# Altium integrated library Xilinx CoolRunner-II FPGA.IntLib: 479 symbols (part 1 of 3)
Pins are listed as number, name and electrical type; pins without a type are passive.

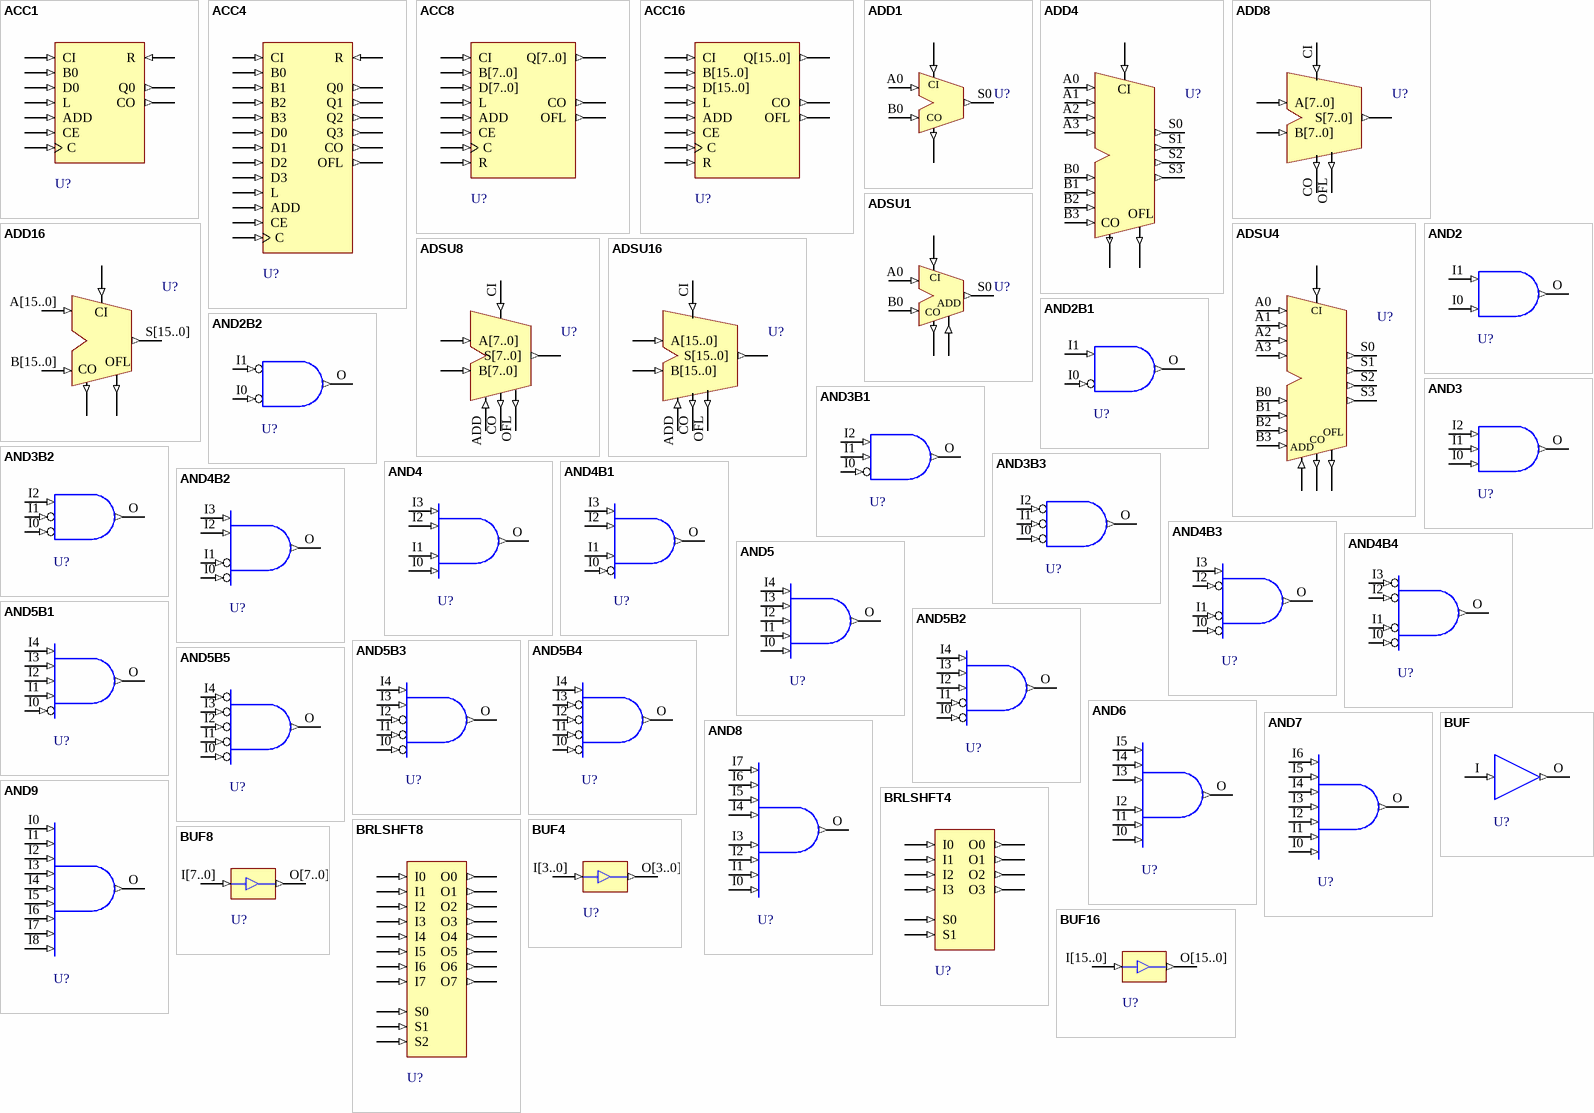
[diagram p0: symbols ACC1 to BUF16]

## ACC1
designator U?
1-Bit Loadable Cascadable Accumulator with Carry-In, Carry-Out and Synchronous Reset; FPGAVendor: Xilinx; Published: 15-Sep-2003; Publisher: Altium Limited; HelpURL: http://toolbox.xilinx.com/docsan/xilinx7/books/docs/lib/lib.pdf
pins: ADD (in), B0 (in), C (in), CE (in), CI (in), CO (out), D0 (in), L (in), Q0 (out), R (in)

## ACC4
designator U?
4-Bit Loadable Cascadable Accumulator with Carry-In, Carry-Out and Synchronous Reset; FPGAVendor: Xilinx; Published: 15-Sep-2003; Publisher: Altium Limited; HelpURL: http://toolbox.xilinx.com/docsan/xilinx7/books/docs/lib/lib.pdf
pins: ADD (in), B0 (in), B1 (in), B2 (in), B3 (in), C (in), CE (in), CI (in), CO (out), D0 (in), D1 (in), D2 (in), D3 (in), L (in), OFL (out), Q0 (out), Q1 (out), Q2 (out), Q3 (out), R (in)

## ACC8
designator U?
8-Bit Loadable Cascadable Accumulator with Carry-In, Carry-Out and Synchronous Reset; FPGAVendor: Xilinx; Published: 15-Sep-2003; Publisher: Altium Limited; HelpURL: http://toolbox.xilinx.com/docsan/xilinx7/books/docs/lib/lib.pdf
pins: ADD (in), B[7..0] (in), C (in), CE (in), CI (in), CO (out), D[7..0] (in), L (in), OFL (out), Q[7..0] (out), R (in)

## ACC16
designator U?
16-Bit Loadable Cascadable Accumulator with Carry-In, Carry-Out and Synchronous Reset; FPGAVendor: Xilinx; Published: 15-Sep-2003; Publisher: Altium Limited; HelpURL: http://toolbox.xilinx.com/docsan/xilinx7/books/docs/lib/lib.pdf
pins: ADD (in), B[15..0] (in), C (in), CE (in), CI (in), CO (out), D[15..0] (in), L (in), OFL (out), Q[15..0] (out), R (in)

## ADD1
designator U?
1-Bit Full Adder with Carry-In and Carry-Out; FPGAVendor: Xilinx; Published: 15-Sep-2003; Publisher: Altium Limited; HelpURL: http://toolbox.xilinx.com/docsan/xilinx7/books/docs/lib/lib.pdf
pins: A0 (in), B0 (in), CI (in), CO (out), S0 (out)

## ADD4
designator U?
4-Bit Cascadable Full Adders with Carry-In, Carry-Out and Overflow; FPGAVendor: Xilinx; Published: 15-Sep-2003; Publisher: Altium Limited; HelpURL: http://toolbox.xilinx.com/docsan/xilinx7/books/docs/lib/lib.pdf
pins: A0 (in), A1 (in), A2 (in), A3 (in), B0 (in), B1 (in), B2 (in), B3 (in), CI (in), CO (out), OFL (out), S0 (out), S1 (out), S2 (out), S3 (out)

## ADD8
designator U?
8-Bit Cascadable Full Adders with Carry-In, Carry-Out and Overflow; FPGAVendor: Xilinx; Published: 15-Sep-2003; Publisher: Altium Limited; HelpURL: http://toolbox.xilinx.com/docsan/xilinx7/books/docs/lib/lib.pdf
pins: A[7..0] (in), B[7..0] (in), CI (in), CO (out), OFL (out), S[7..0] (out)

## ADD16
designator U?
16-Bit Cascadable Full Adders with Carry-In, Carry-Out and Overflow; FPGAVendor: Xilinx; Published: 15-Sep-2003; Publisher: Altium Limited; HelpURL: http://toolbox.xilinx.com/docsan/xilinx7/books/docs/lib/lib.pdf
pins: A[15..0] (in), B[15..0] (in), CI (in), CO (out), OFL (out), S[15..0] (out)

## ADSU1
designator U?
1-Bit Cascadable Adder/Subtracter with Carry-In and Carry-Out; FPGAVendor: Xilinx; Published: 15-Sep-2003; Publisher: Altium Limited; HelpURL: http://toolbox.xilinx.com/docsan/xilinx7/books/docs/lib/lib.pdf
pins: A0 (in), ADD (in), B0 (in), CI (in), CO (out), S0 (out)

## ADSU4
designator U?
4-Bit Cascadable Adders/Subtracters with Carry-In, Carry-Out and Overflow; FPGAVendor: Xilinx; Published: 15-Sep-2003; Publisher: Altium Limited; HelpURL: http://toolbox.xilinx.com/docsan/xilinx7/books/docs/lib/lib.pdf
pins: A0 (in), A1 (in), A2 (in), A3 (in), ADD (in), B0 (in), B1 (in), B2 (in), B3 (in), CI (in), CO (out), OFL (out), S0 (out), S1 (out), S2 (out), S3 (out)

## ADSU8
designator U?
8-Bit Cascadable Adders/Subtracters with Carry-In, Carry-Out and Overflow; FPGAVendor: Xilinx; Published: 15-Sep-2003; Publisher: Altium Limited; HelpURL: http://toolbox.xilinx.com/docsan/xilinx7/books/docs/lib/lib.pdf
pins: A[7..0] (in), ADD (in), B[7..0] (in), CI (in), CO (out), OFL (out), S[7..0] (out)

## ADSU16
designator U?
16-Bit Cascadable Adders/Subtracters with Carry-In, Carry-Out and Overflow; FPGAVendor: Xilinx; Published: 15-Sep-2003; Publisher: Altium Limited; HelpURL: http://toolbox.xilinx.com/docsan/xilinx7/books/docs/lib/lib.pdf
pins: A[15..0] (in), ADD (in), B[15..0] (in), CI (in), CO (out), OFL (out), S[15..0] (out)

## AND2
designator U?
2-Input AND Gate; FPGAVendor: Xilinx; Published: 15-Sep-2003; Publisher: Altium Limited; HelpURL: http://toolbox.xilinx.com/docsan/xilinx7/books/docs/lib/lib.pdf
pins: I0 (in), I1 (in), O (out)

## AND2B1
designator U?
2-Input AND Gate with One Inverted Input; FPGAVendor: Xilinx; Published: 15-Sep-2003; Publisher: Altium Limited; HelpURL: http://toolbox.xilinx.com/docsan/xilinx7/books/docs/lib/lib.pdf
pins: I0 (in), I1 (in), O (out)

## AND2B2
designator U?
2-Input AND Gate with Two Inverted Inputs; FPGAVendor: Xilinx; Published: 15-Sep-2003; Publisher: Altium Limited; HelpURL: http://toolbox.xilinx.com/docsan/xilinx7/books/docs/lib/lib.pdf
pins: I0 (in), I1 (in), O (out)

## AND3
designator U?
3-Input AND Gate; FPGAVendor: Xilinx; Published: 15-Sep-2003; Publisher: Altium Limited; HelpURL: http://toolbox.xilinx.com/docsan/xilinx7/books/docs/lib/lib.pdf
pins: I0 (in), I1 (in), I2 (in), O (out)

## AND3B1
designator U?
3-Input AND Gate with One Inverted Input; FPGAVendor: Xilinx; Published: 15-Sep-2003; Publisher: Altium Limited; HelpURL: http://toolbox.xilinx.com/docsan/xilinx7/books/docs/lib/lib.pdf
pins: I0 (in), I1 (in), I2 (in), O (out)

## AND3B2
designator U?
3-Input AND Gate with Two Inverted Inputs; FPGAVendor: Xilinx; Published: 15-Sep-2003; Publisher: Altium Limited; HelpURL: http://toolbox.xilinx.com/docsan/xilinx7/books/docs/lib/lib.pdf
pins: I0 (in), I1 (in), I2 (in), O (out)

## AND3B3
designator U?
3-Input AND Gate with Three Inverted Inputs; FPGAVendor: Xilinx; Published: 15-Sep-2003; Publisher: Altium Limited; HelpURL: http://toolbox.xilinx.com/docsan/xilinx7/books/docs/lib/lib.pdf
pins: I0 (in), I1 (in), I2 (in), O (out)

## AND4
designator U?
4-Input AND Gate; FPGAVendor: Xilinx; Published: 15-Sep-2003; Publisher: Altium Limited; HelpURL: http://toolbox.xilinx.com/docsan/xilinx7/books/docs/lib/lib.pdf
pins: I0 (in), I1 (in), I2 (in), I3 (in), O (out)

## AND4B1
designator U?
4-Input AND Gate with One Inverted Input; FPGAVendor: Xilinx; Published: 15-Sep-2003; Publisher: Altium Limited; HelpURL: http://toolbox.xilinx.com/docsan/xilinx7/books/docs/lib/lib.pdf
pins: I0 (in), I1 (in), I2 (in), I3 (in), O (out)

## AND4B2
designator U?
4-Input AND Gate with Two Inverted Inputs; FPGAVendor: Xilinx; Published: 15-Sep-2003; Publisher: Altium Limited; HelpURL: http://toolbox.xilinx.com/docsan/xilinx7/books/docs/lib/lib.pdf
pins: I0 (in), I1 (in), I2 (in), I3 (in), O (out)

## AND4B3
designator U?
4-Input AND Gate with Three Inverted Inputs; FPGAVendor: Xilinx; Published: 15-Sep-2003; Publisher: Altium Limited; HelpURL: http://toolbox.xilinx.com/docsan/xilinx7/books/docs/lib/lib.pdf
pins: I0 (in), I1 (in), I2 (in), I3 (in), O (out)

## AND4B4
designator U?
4-Input AND Gate with Four Inverted Inputs; FPGAVendor: Xilinx; Published: 15-Sep-2003; Publisher: Altium Limited; HelpURL: http://toolbox.xilinx.com/docsan/xilinx7/books/docs/lib/lib.pdf
pins: I0 (in), I1 (in), I2 (in), I3 (in), O (out)

## AND5
designator U?
5-Input AND Gate; FPGAVendor: Xilinx; Published: 15-Sep-2003; Publisher: Altium Limited; HelpURL: http://toolbox.xilinx.com/docsan/xilinx7/books/docs/lib/lib.pdf
pins: I0 (in), I1 (in), I2 (in), I3 (in), I4 (in), O (out)

## AND5B1
designator U?
5-Input AND Gate with One Inverted Input; FPGAVendor: Xilinx; Published: 15-Sep-2003; Publisher: Altium Limited; HelpURL: http://toolbox.xilinx.com/docsan/xilinx7/books/docs/lib/lib.pdf
pins: I0 (in), I1 (in), I2 (in), I3 (in), I4 (in), O (out)

## AND5B2
designator U?
5-Input AND Gate with Two Inverted Inputs; FPGAVendor: Xilinx; Published: 15-Sep-2003; Publisher: Altium Limited; HelpURL: http://toolbox.xilinx.com/docsan/xilinx7/books/docs/lib/lib.pdf
pins: I0 (in), I1 (in), I2 (in), I3 (in), I4 (in), O (out)

## AND5B3
designator U?
5-Input AND Gate with Three Inverted Inputs; FPGAVendor: Xilinx; Published: 15-Sep-2003; Publisher: Altium Limited; HelpURL: http://toolbox.xilinx.com/docsan/xilinx7/books/docs/lib/lib.pdf
pins: I0 (in), I1 (in), I2 (in), I3 (in), I4 (in), O (out)

## AND5B4
designator U?
5-Input AND Gate with Four Inverted Inputs; FPGAVendor: Xilinx; Published: 15-Sep-2003; Publisher: Altium Limited; HelpURL: http://toolbox.xilinx.com/docsan/xilinx7/books/docs/lib/lib.pdf
pins: I0 (in), I1 (in), I2 (in), I3 (in), I4 (in), O (out)

## AND5B5
designator U?
5-Input AND Gate with Five Inverted Inputs; FPGAVendor: Xilinx; Published: 15-Sep-2003; Publisher: Altium Limited; HelpURL: http://toolbox.xilinx.com/docsan/xilinx7/books/docs/lib/lib.pdf
pins: I0 (in), I1 (in), I2 (in), I3 (in), I4 (in), O (out)

## AND6
designator U?
6-Input AND Gate; FPGAVendor: Xilinx; Published: 15-Sep-2003; Publisher: Altium Limited; HelpURL: http://toolbox.xilinx.com/docsan/xilinx7/books/docs/lib/lib.pdf
pins: I0 (in), I1 (in), I2 (in), I3 (in), I4 (in), I5 (in), O (out)

## AND7
designator U?
7-Input AND Gate; FPGAVendor: Xilinx; Published: 15-Sep-2003; Publisher: Altium Limited; HelpURL: http://toolbox.xilinx.com/docsan/xilinx7/books/docs/lib/lib.pdf
pins: I0 (in), I1 (in), I2 (in), I3 (in), I4 (in), I5 (in), I6 (in), O (out)

## AND8
designator U?
8-Input AND Gate; FPGAVendor: Xilinx; Published: 15-Sep-2003; Publisher: Altium Limited; HelpURL: http://toolbox.xilinx.com/docsan/xilinx7/books/docs/lib/lib.pdf
pins: I0 (in), I1 (in), I2 (in), I3 (in), I4 (in), I5 (in), I6 (in), I7 (in), O (out)

## AND9
designator U?
9-Input AND Gate; FPGAVendor: Xilinx; Published: 15-Sep-2003; Publisher: Altium Limited; HelpURL: http://toolbox.xilinx.com/docsan/xilinx7/books/docs/lib/lib.pdf
pins: I0 (in), I1 (in), I2 (in), I3 (in), I4 (in), I5 (in), I6 (in), I7 (in), I8 (in), O (out)

## BRLSHFT4
designator U?
4-Bit Barrel Shifter; FPGAVendor: Xilinx; Published: 15-Sep-2003; Publisher: Altium Limited; HelpURL: http://toolbox.xilinx.com/docsan/xilinx7/books/docs/lib/lib.pdf
pins: I0 (in), I1 (in), I2 (in), I3 (in), O0 (out), O1 (out), O2 (out), O3 (out), S0 (in), S1 (in)

## BRLSHFT8
designator U?
8-Bit Barrel Shifter; FPGAVendor: Xilinx; Published: 15-Sep-2003; Publisher: Altium Limited; HelpURL: http://toolbox.xilinx.com/docsan/xilinx7/books/docs/lib/lib.pdf
pins: I0 (in), I1 (in), I2 (in), I3 (in), I4 (in), I5 (in), I6 (in), I7 (in), O0 (out), O1 (out), O2 (out), O3 (out), O4 (out), O5 (out), O6 (out), O7 (out), S0 (in), S1 (in), S2 (in)

## BUF
designator U?
Global Clock Buffer; FPGAVendor: Xilinx; Published: 15-Sep-2003; Publisher: Altium Limited; HelpURL: http://toolbox.xilinx.com/docsan/xilinx7/books/docs/lib/lib.pdf
pins: I (in), O (out)

## BUF4
designator U?
General-Purpose Buffer; FPGAVendor: Xilinx; Published: 15-Sep-2003; Publisher: Altium Limited; HelpURL: http://toolbox.xilinx.com/docsan/xilinx7/books/docs/lib/lib.pdf
pins: I[3..0] (in), O[3..0] O0 (out)

## BUF8
designator U?
General-Purpose Buffer; FPGAVendor: Xilinx; Published: 15-Sep-2003; Publisher: Altium Limited; HelpURL: http://toolbox.xilinx.com/docsan/xilinx7/books/docs/lib/lib.pdf
pins: I[7..0] (in), O[7..0] (out)

## BUF16
designator U?
General-Purpose Buffer; FPGAVendor: Xilinx; Published: 15-Sep-2003; Publisher: Altium Limited; HelpURL: http://toolbox.xilinx.com/docsan/xilinx7/books/docs/lib/lib.pdf
pins: I[15..0] (in), O[15..0] (out)

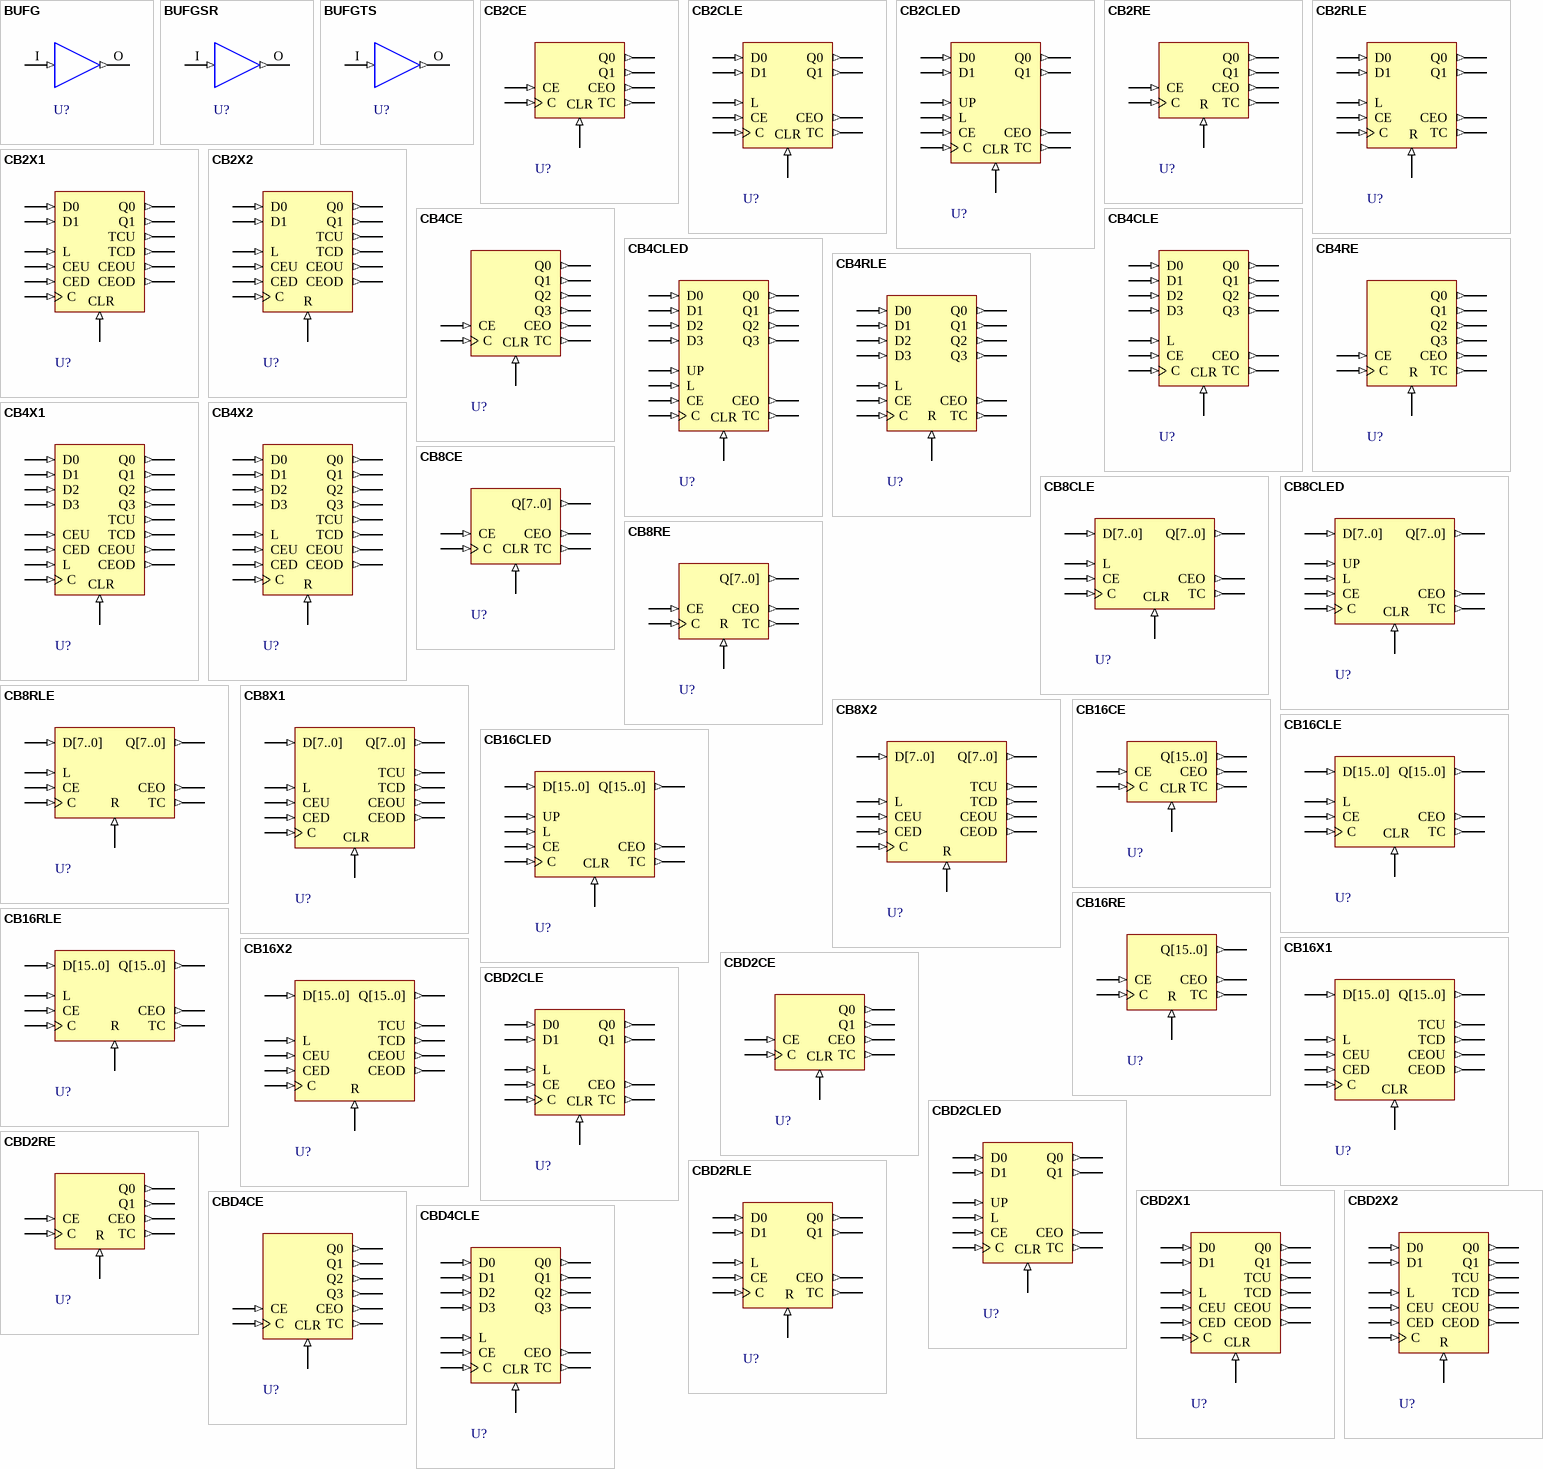
[diagram p1: symbols BUFG to CBD4CLE]

## BUFG
designator U?
Global Clock Buffer; FPGAVendor: Xilinx; Published: 15-Sep-2003; Publisher: Altium Limited; HelpURL: http://toolbox.xilinx.com/docsan/xilinx7/books/docs/lib/lib.pdf
pins: I (in), O (out)

## BUFGSR
designator U?
Global Set/Reset Input Buffer; FPGAVendor: Xilinx; Published: 15-Sep-2003; Publisher: Altium Limited; HelpURL: http://toolbox.xilinx.com/docsan/xilinx7/books/docs/lib/lib.pdf
pins: I (in), O (out)

## BUFGTS
designator U?
Global Three-State Input Buffer; FPGAVendor: Xilinx; Published: 15-Sep-2003; Publisher: Altium Limited; HelpURL: http://toolbox.xilinx.com/docsan/xilinx7/books/docs/lib/lib.pdf
pins: I (in), O (out)

## CB2CE
designator U?
2-Bit Cascadable Binary Counter with Clock Enable and Asynchronous Clear; FPGAVendor: Xilinx; Published: 15-Sep-2003; Publisher: Altium Limited; HelpURL: http://toolbox.xilinx.com/docsan/xilinx7/books/docs/lib/lib.pdf
pins: C (in), CE (in), CEO (out), CLR (in), Q0 (out), Q1 (out), TC (out)

## CB2CLE
designator U?
2-Bit Loadable Cascadable Binary Counter with Clock Enable and Asynchronous Clear; FPGAVendor: Xilinx; Published: 15-Sep-2003; Publisher: Altium Limited; HelpURL: http://toolbox.xilinx.com/docsan/xilinx7/books/docs/lib/lib.pdf
pins: C (in), CE (in), CEO (out), CLR (in), D0 (in), D1 (in), L (in), Q0 (out), Q1 (out), TC (out)

## CB2CLED
designator U?
2-Bit Loadable Cascadable Bidirectional Binary Counter with Clock Enable and Asynchronous Clear; FPGAVendor: Xilinx; Published: 15-Sep-2003; Publisher: Altium Limited; HelpURL: http://toolbox.xilinx.com/docsan/xilinx7/books/docs/lib/lib.pdf
pins: C (in), CE (in), CEO (out), CLR (in), D0 (in), D1 (in), L (in), Q0 (out), Q1 (out), TC (out), UP (in)

## CB2RE
designator U?
2-Bit Cascadable Binary Counter with Clock Enable and Synchronous Reset; FPGAVendor: Xilinx; Published: 15-Sep-2003; Publisher: Altium Limited; HelpURL: http://toolbox.xilinx.com/docsan/xilinx7/books/docs/lib/lib.pdf
pins: C (in), CE (in), CEO (out), Q0 (out), Q1 (out), R (in), TC (out)

## CB2RLE
designator U?
2-Bit Loadable Cascadable Binary Counter with Clock Enable and Synchronous Reset; FPGAVendor: Xilinx; Published: 15-Sep-2003; Publisher: Altium Limited; HelpURL: http://toolbox.xilinx.com/docsan/xilinx7/books/docs/lib/lib.pdf
pins: C (in), CE (in), CEO (out), D0 (in), D1 (in), L (in), Q0 (out), Q1 (out), R (in), TC (out)

## CB2X1
designator U?
2-Bit Loadable Cascadable Bidirectional Binary Counter with Clock Enable and Asynchronous Clear; FPGAVendor: Xilinx; Published: 15-Sep-2003; Publisher: Altium Limited; HelpURL: http://toolbox.xilinx.com/docsan/xilinx7/books/docs/lib/lib.pdf
pins: C (in), CED (in), CEOD (out), CEOU (out), CEU (in), CLR (in), D0 (in), D1 (in), L (in), Q0 (out), Q1 (out), TCD (out), TCU (out)

## CB2X2
designator U?
2-Bit Loadable Cascadable Bidirectional Binary Counter with Clock Enable and Synchronous Reset; FPGAVendor: Xilinx; Published: 15-Sep-2003; Publisher: Altium Limited; HelpURL: http://toolbox.xilinx.com/docsan/xilinx7/books/docs/lib/lib.pdf
pins: C (in), CED (in), CEOD (out), CEOU (out), CEU (in), D0 (in), D1 (in), L (in), Q0 (out), Q1 (out), R (in), TCD (out), TCU (out)

## CB4CE
designator U?
4-Bit Cascadable Binary Counter with Clock Enable and Asynchronous Clear; FPGAVendor: Xilinx; Published: 15-Sep-2003; Publisher: Altium Limited; HelpURL: http://toolbox.xilinx.com/docsan/xilinx7/books/docs/lib/lib.pdf
pins: C (in), CE (in), CEO (out), CLR (in), Q0 (out), Q1 (out), Q2 (out), Q3 (out), TC (out)

## CB4CLE
designator U?
4-Bit Loadable Cascadable Binary Counter with Clock Enable and Asynchronous Clear; FPGAVendor: Xilinx; Published: 15-Sep-2003; Publisher: Altium Limited; HelpURL: http://toolbox.xilinx.com/docsan/xilinx7/books/docs/lib/lib.pdf
pins: C (in), CE (in), CEO (out), CLR (in), D0 (in), D1 (in), D2 (in), D3 (in), L (in), Q0 (out), Q1 (out), Q2 (out), Q3 (out), TC (out)

## CB4CLED
designator U?
4-Bit Loadable Cascadable Bidirectional Binary Counter with Clock Enable and Asynchronous Clear; FPGAVendor: Xilinx; Published: 15-Sep-2003; Publisher: Altium Limited; HelpURL: http://toolbox.xilinx.com/docsan/xilinx7/books/docs/lib/lib.pdf
pins: C (in), CE (in), CEO (out), CLR (in), D0 (in), D1 (in), D2 (in), D3 (in), L (in), Q0 (out), Q1 (out), Q2 (out), Q3 (out), TC (out), UP (in)

## CB4RE
designator U?
4-Bit Cascadable Binary Counter with Clock Enable and Synchronous Reset; FPGAVendor: Xilinx; Published: 15-Sep-2003; Publisher: Altium Limited; HelpURL: http://toolbox.xilinx.com/docsan/xilinx7/books/docs/lib/lib.pdf
pins: C (in), CE (in), CEO (out), Q0 (out), Q1 (out), Q2 (out), Q3 (out), R (in), TC (out)

## CB4RLE
designator U?
4-Bit Loadable Cascadable Binary Counter with Clock Enable and Synchronous Reset; FPGAVendor: Xilinx; Published: 15-Sep-2003; Publisher: Altium Limited; HelpURL: http://toolbox.xilinx.com/docsan/xilinx7/books/docs/lib/lib.pdf
pins: C (in), CE (in), CEO (out), D0 (in), D1 (in), D2 (in), D3 (in), L (in), Q0 (out), Q1 (out), Q2 (out), Q3 (out), R (in), TC (out)

## CB4X1
designator U?
4-Bit Loadable Cascadable Bidirectional Binary Counter with Clock Enable and Asynchronous Clear; FPGAVendor: Xilinx; Published: 15-Sep-2003; Publisher: Altium Limited; HelpURL: http://toolbox.xilinx.com/docsan/xilinx7/books/docs/lib/lib.pdf
pins: C (in), CED (in), CEOD (out), CEOU (out), CEU (in), CLR (in), D0 (in), D1 (in), D2 (in), D3 (in), L (in), Q0 (out), Q1 (out), Q2 (out), Q3 (out), TCD (out), TCU (out)

## CB4X2
designator U?
4-Bit Loadable Cascadable Bidirectional Binary Counter with Clock Enable and Synchronous Reset; FPGAVendor: Xilinx; Published: 15-Sep-2003; Publisher: Altium Limited; HelpURL: http://toolbox.xilinx.com/docsan/xilinx7/books/docs/lib/lib.pdf
pins: C (in), CED (in), CEOD (out), CEOU (out), CEU (in), D0 (in), D1 (in), D2 (in), D3 (in), L (in), Q0 (out), Q1 (out), Q2 (out), Q3 (out), R (in), TCD (out), TCU (out)

## CB8CE
designator U?
8-Bit Cascadable Binary Counter with Clock Enable and Asynchronous Clear; FPGAVendor: Xilinx; Published: 15-Sep-2003; Publisher: Altium Limited; HelpURL: http://toolbox.xilinx.com/docsan/xilinx7/books/docs/lib/lib.pdf
pins: C (in), CE (in), CEO (out), CLR (in), Q[7..0] (out), TC (out)

## CB8CLE
designator U?
8-Bit Loadable Cascadable Binary Counter with Clock Enable and Asynchronous Clear; FPGAVendor: Xilinx; Published: 15-Sep-2003; Publisher: Altium Limited; HelpURL: http://toolbox.xilinx.com/docsan/xilinx7/books/docs/lib/lib.pdf
pins: C (in), CE (in), CEO (out), CLR (in), D[7..0] (in), L (in), Q[7..0] (out), TC (out)

## CB8CLED
designator U?
8-Bit Loadable Cascadable Bidirectional Binary Counter with Clock Enable and Asynchronous Clear; FPGAVendor: Xilinx; Published: 15-Sep-2003; Publisher: Altium Limited; HelpURL: http://toolbox.xilinx.com/docsan/xilinx7/books/docs/lib/lib.pdf
pins: C (in), CE (in), CEO (out), CLR (in), D[7..0] (in), L (in), Q[7..0] (out), TC (out), UP (in)

## CB8RE
designator U?
8-Bit Cascadable Binary Counter with Clock Enable and Synchronous Reset; FPGAVendor: Xilinx; Published: 15-Sep-2003; Publisher: Altium Limited; HelpURL: http://toolbox.xilinx.com/docsan/xilinx7/books/docs/lib/lib.pdf
pins: C (in), CE (in), CEO (out), Q[7..0] (out), R (in), TC (out)

## CB8RLE
designator U?
8-Bit Loadable Cascadable Binary Counter with Clock Enable and Synchronous Reset; FPGAVendor: Xilinx; Published: 15-Sep-2003; Publisher: Altium Limited; HelpURL: http://toolbox.xilinx.com/docsan/xilinx7/books/docs/lib/lib.pdf
pins: C (in), CE (in), CEO (out), D[7..0] (in), L (in), Q[7..0] (out), R (in), TC (out)

## CB8X1
designator U?
8-Bit Loadable Cascadable Bidirectional Binary Counter with Clock Enable and Asynchronous Clear; FPGAVendor: Xilinx; Published: 15-Sep-2003; Publisher: Altium Limited; HelpURL: http://toolbox.xilinx.com/docsan/xilinx7/books/docs/lib/lib.pdf
pins: C (in), CED (in), CEOD (out), CEOU (out), CEU (in), CLR (in), D[7..0] (in), L (in), Q[7..0] (out), TCD (out), TCU (out)

## CB8X2
designator U?
8-Bit Loadable Cascadable Bidirectional Binary Counter with Clock Enable and Synchronous Reset; FPGAVendor: Xilinx; Published: 15-Sep-2003; Publisher: Altium Limited; HelpURL: http://toolbox.xilinx.com/docsan/xilinx7/books/docs/lib/lib.pdf
pins: C (in), CED (in), CEOD (out), CEOU (out), CEU (in), D[7..0] (in), L (in), Q[7..0] (out), R (in), TCD (out), TCU (out)

## CB16CE
designator U?
16-Bit Cascadable Binary Counter with Clock Enable and Asynchronous Clear; FPGAVendor: Xilinx; Published: 15-Sep-2003; Publisher: Altium Limited; HelpURL: http://toolbox.xilinx.com/docsan/xilinx7/books/docs/lib/lib.pdf
pins: C (in), CE (in), CEO (out), CLR (in), Q[15..0] (out), TC (out)

## CB16CLE
designator U?
16-Bit Loadable Cascadable Binary Counters with Clock Enable and Asynchronous Clear; FPGAVendor: Xilinx; Published: 15-Sep-2003; Publisher: Altium Limited; HelpURL: http://toolbox.xilinx.com/docsan/xilinx7/books/docs/lib/lib.pdf
pins: C (in), CE (in), CEO (out), CLR (in), D[15..0] (in), L (in), Q[15..0] (out), TC (out)

## CB16CLED
designator U?
16-Bit Loadable Cascadable Bidirectional Binary Counter with Clock Enable and Asynchronous Clear; FPGAVendor: Xilinx; Published: 15-Sep-2003; Publisher: Altium Limited; HelpURL: http://toolbox.xilinx.com/docsan/xilinx7/books/docs/lib/lib.pdf
pins: C (in), CE (in), CEO (out), CLR (in), D[15..0] (in), L (in), Q[15..0] (out), TC (out), UP (in)

## CB16RE
designator U?
16-Bit Cascadable Binary Counter with Clock Enable and Synchronous Reset; FPGAVendor: Xilinx; Published: 15-Sep-2003; Publisher: Altium Limited; HelpURL: http://toolbox.xilinx.com/docsan/xilinx7/books/docs/lib/lib.pdf
pins: C (in), CE (in), CEO (out), Q[15..0] (out), R (in), TC (out)

## CB16RLE
designator U?
16-Bit Loadable Cascadable Binary Counter with Clock Enable and Synchronous Reset; FPGAVendor: Xilinx; Published: 15-Sep-2003; Publisher: Altium Limited; HelpURL: http://toolbox.xilinx.com/docsan/xilinx7/books/docs/lib/lib.pdf
pins: C (in), CE (in), CEO (out), D[15..0] (in), L (in), Q[15..0] (out), R (in), TC (out)

## CB16X1
designator U?
16-Bit Loadable Cascadable Bidirectional Binary Counter with Clock Enable and Asynchronous Clear; FPGAVendor: Xilinx; Published: 15-Sep-2003; Publisher: Altium Limited; HelpURL: http://toolbox.xilinx.com/docsan/xilinx7/books/docs/lib/lib.pdf
pins: C (in), CED (in), CEOD (out), CEOU (out), CEU (in), CLR (in), D[15..0] (in), L (in), Q[15..0] (out), TCD (out), TCU (out)

## CB16X2
designator U?
16-Bit Loadable Cascadable Bidirectional Binary Counter with Clock Enable and Synchronous Reset; FPGAVendor: Xilinx; Published: 15-Sep-2003; Publisher: Altium Limited; HelpURL: http://toolbox.xilinx.com/docsan/xilinx7/books/docs/lib/lib.pdf
pins: C (in), CED (in), CEOD (out), CEOU (out), CEU (in), D[15..0] (in), L (in), Q[15..0] (out), R (in), TCD (out), TCU (out)

## CBD2CE
designator U?
2-Bit Cascadable Dual Edge Triggered Binary Counters with Clock Enable and Asynchronous Clear; FPGAVendor: Xilinx; Published: 15-Sep-2003; Publisher: Altium Limited; HelpURL: http://toolbox.xilinx.com/docsan/xilinx7/books/docs/lib/lib.pdf
pins: C (in), CE (in), CEO (out), CLR (in), Q0 (out), Q1 (out), TC (out)

## CBD2CLE
designator U?
2-Bit Loadable Cascadable Dual Edge Triggered Binary Counters with Clock Enable and Asynchronous Clear; FPGAVendor: Xilinx; Published: 15-Sep-2003; Publisher: Altium Limited; HelpURL: http://toolbox.xilinx.com/docsan/xilinx7/books/docs/lib/lib.pdf
pins: C (in), CE (in), CEO (out), CLR (in), D0 (in), D1 (in), L (in), Q0 (out), Q1 (out), TC (out)

## CBD2CLED
designator U?
2-Bit Loadable Cascadable Bidirectional Dual Edge Triggered Binary Counters with Clock Enable and Asynchronous Clear; FPGAVendor: Xilinx; Published: 15-Sep-2003; Publisher: Altium Limited; HelpURL: http://toolbox.xilinx.com/docsan/xilinx7/books/docs/lib/lib.pdf
pins: C (in), CE (in), CEO (out), CLR (in), D0 (in), D1 (in), L (in), Q0 (out), Q1 (out), TC (out), UP (in)

## CBD2RE
designator U?
2-Bit Cascadable Dual Edge Triggered Binary Counters with Clock Enable and Synchronous Reset; FPGAVendor: Xilinx; Published: 15-Sep-2003; Publisher: Altium Limited; HelpURL: http://toolbox.xilinx.com/docsan/xilinx7/books/docs/lib/lib.pdf
pins: C (in), CE (in), CEO (out), Q0 (out), Q1 (out), R (in), TC (out)

## CBD2RLE
designator U?
2-Bit Loadable Cascadable Dual Edge Triggered Binary Counters with Clock Enable and Synchronous Reset; FPGAVendor: Xilinx; Published: 15-Sep-2003; Publisher: Altium Limited; HelpURL: http://toolbox.xilinx.com/docsan/xilinx7/books/docs/lib/lib.pdf
pins: C (in), CE (in), CEO (out), D0 (in), D1 (in), L (in), Q0 (out), Q1 (out), R (in), TC (out)

## CBD2X1
designator U?
2-Bit Loadable Cascadable Bidirectional Dual Edge Triggered Binary Counters with Clock Enable and Asynchronous Clear; FPGAVendor: Xilinx; Published: 15-Sep-2003; Publisher: Altium Limited; HelpURL: http://toolbox.xilinx.com/docsan/xilinx7/books/docs/lib/lib.pdf
pins: C (in), CED (in), CEOD (out), CEOU (out), CEU (in), CLR (in), D0 (in), D1 (in), L (in), Q0 (out), Q1 (out), TCD (out), TCU (out)

## CBD2X2
designator U?
2-Bit Loadable Cascadable Bidirectional Dual Edge Triggered Binary Counters with Clock Enable and Synchronous Reset; FPGAVendor: Xilinx; Published: 15-Sep-2003; Publisher: Altium Limited; HelpURL: http://toolbox.xilinx.com/docsan/xilinx7/books/docs/lib/lib.pdf
pins: C (in), CED (in), CEOD (out), CEOU (out), CEU (in), D0 (in), D1 (in), L (in), Q0 (out), Q1 (out), R (in), TCD (out), TCU (out)

## CBD4CE
designator U?
4-Bit Cascadable Dual Edge Triggered Binary Counters with Clock Enable and Asynchronous Clear; FPGAVendor: Xilinx; Published: 15-Sep-2003; Publisher: Altium Limited; HelpURL: http://toolbox.xilinx.com/docsan/xilinx7/books/docs/lib/lib.pdf
pins: C (in), CE (in), CEO (out), CLR (in), Q0 (out), Q1 (out), Q2 (out), Q3 (out), TC (out)

## CBD4CLE
designator U?
4-Bit Loadable Cascadable Dual Edge Triggered Binary Counters with Clock Enable and Asynchronous Clear; FPGAVendor: Xilinx; Published: 15-Sep-2003; Publisher: Altium Limited; HelpURL: http://toolbox.xilinx.com/docsan/xilinx7/books/docs/lib/lib.pdf
pins: C (in), CE (in), CEO (out), CLR (in), D0 (in), D1 (in), D2 (in), D3 (in), L (in), Q0 (out), Q1 (out), Q2 (out), Q3 (out), TC (out)

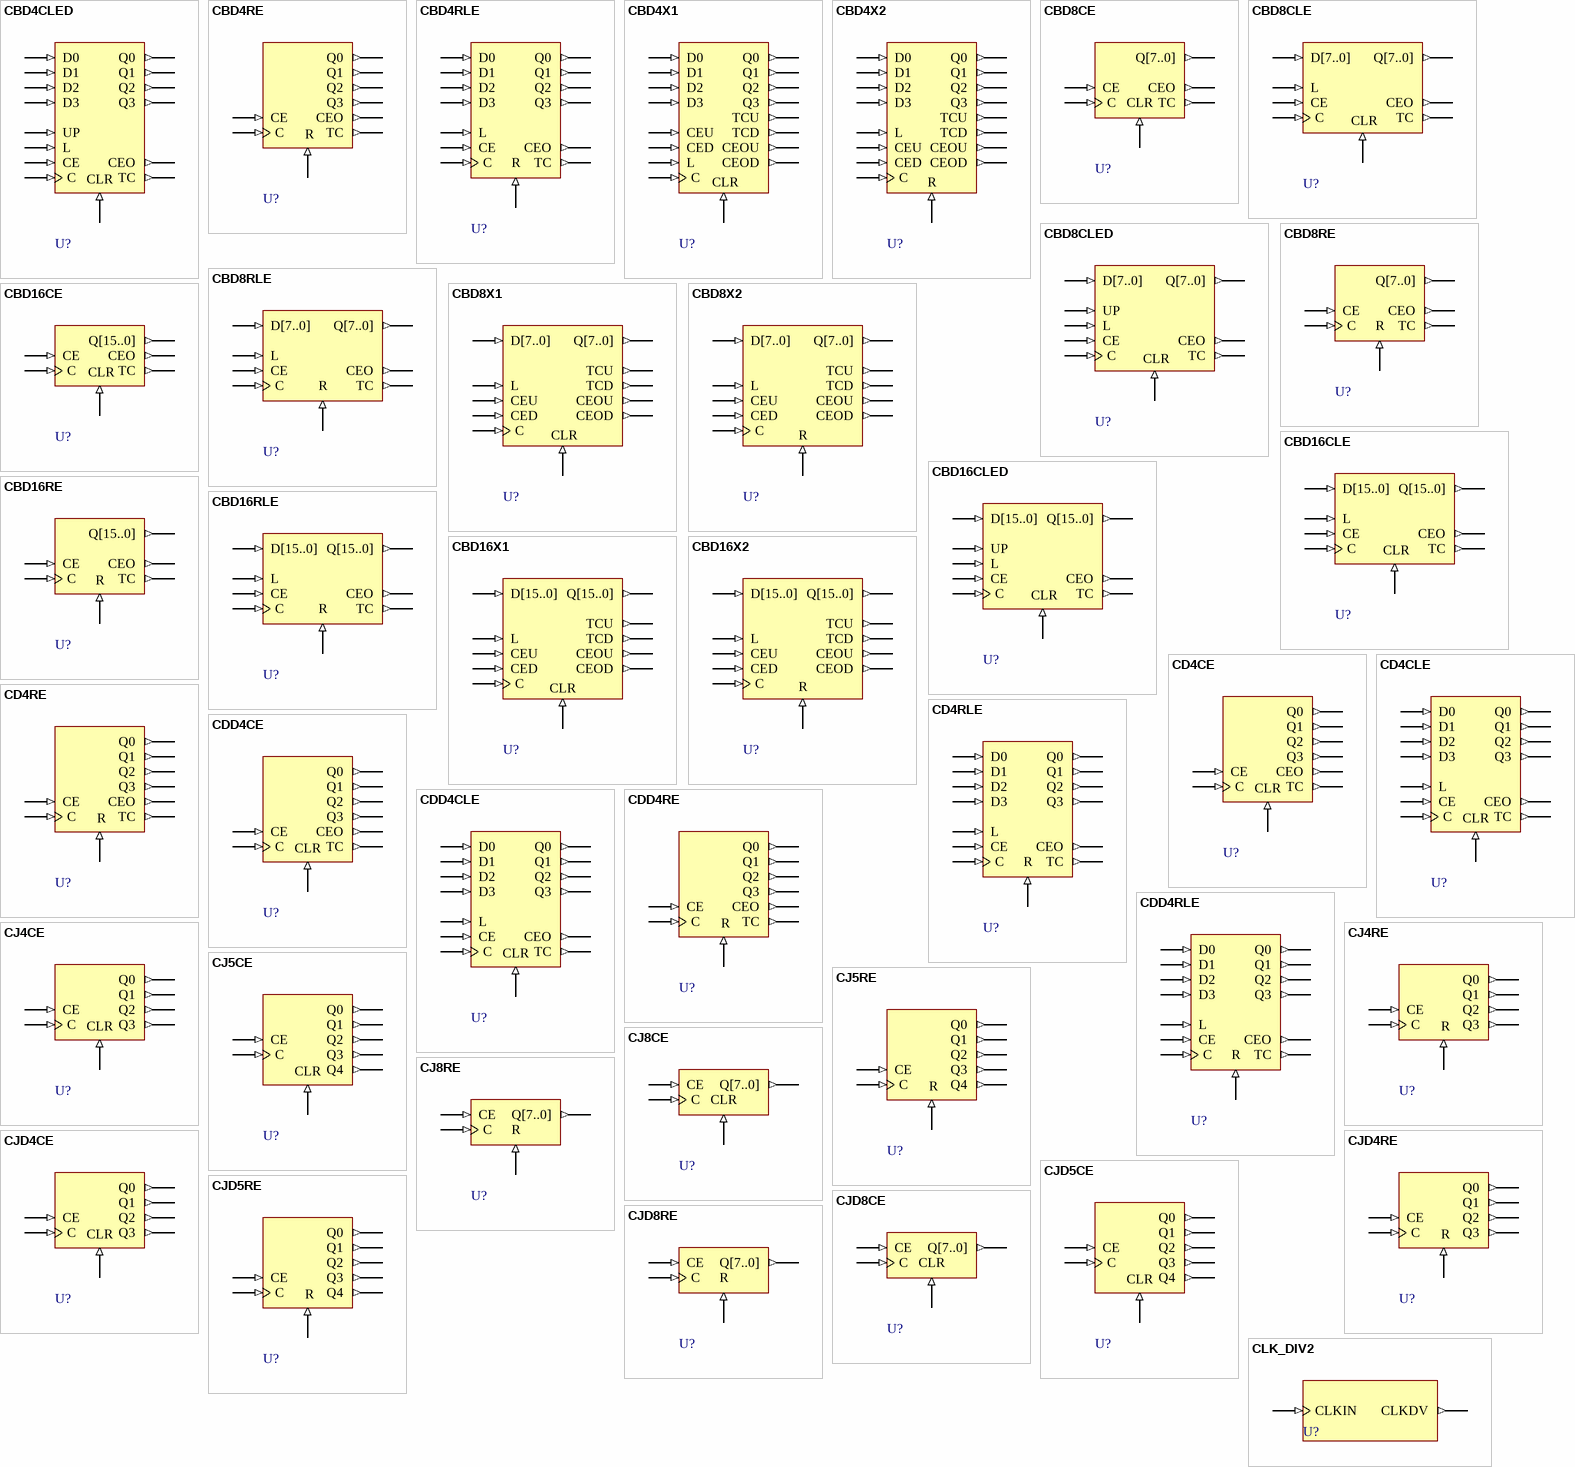
[diagram p2: symbols CBD4CLED to CLK_DIV2]

## CBD4CLED
designator U?
4-Bit Loadable Cascadable Bidirectional Dual Edge Triggered Binary Counters with Clock Enable and Asynchronous Clear; FPGAVendor: Xilinx; Published: 15-Sep-2003; Publisher: Altium Limited; HelpURL: http://toolbox.xilinx.com/docsan/xilinx7/books/docs/lib/lib.pdf
pins: C (in), CE (in), CEO (out), CLR (in), D0 (in), D1 (in), D2 (in), D3 (in), L (in), Q0 (out), Q1 (out), Q2 (out), Q3 (out), TC (out), UP (in)

## CBD4RE
designator U?
4-Bit Cascadable Dual Edge Triggered Binary Counters with Clock Enable and Synchronous Reset; FPGAVendor: Xilinx; Published: 15-Sep-2003; Publisher: Altium Limited; HelpURL: http://toolbox.xilinx.com/docsan/xilinx7/books/docs/lib/lib.pdf
pins: C (in), CE (in), CEO (out), Q0 (out), Q1 (out), Q2 (out), Q3 (out), R (in), TC (out)

## CBD4RLE
designator U?
4-Bit Loadable Cascadable Dual Edge Triggered Binary Counters with Clock Enable and Synchronous Reset; FPGAVendor: Xilinx; Published: 15-Sep-2003; Publisher: Altium Limited; HelpURL: http://toolbox.xilinx.com/docsan/xilinx7/books/docs/lib/lib.pdf
pins: C (in), CE (in), CEO (out), D0 (in), D1 (in), D2 (in), D3 (in), L (in), Q0 (out), Q1 (out), Q2 (out), Q3 (out), R (in), TC (out)

## CBD4X1
designator U?
4-Bit Loadable Cascadable Bidirectional Dual Edge Triggered Binary Counters with Clock Enable and Asynchronous Clear; FPGAVendor: Xilinx; Published: 15-Sep-2003; Publisher: Altium Limited; HelpURL: http://toolbox.xilinx.com/docsan/xilinx7/books/docs/lib/lib.pdf
pins: C (in), CED (in), CEOD (out), CEOU (out), CEU (in), CLR (in), D0 (in), D1 (in), D2 (in), D3 (in), L (in), Q0 (out), Q1 (out), Q2 (out), Q3 (out), TCD (out), TCU (out)

## CBD4X2
designator U?
4-Bit Loadable Cascadable Bidirectional Dual Edge Triggered Binary Counters with Clock Enable and Synchronous Reset; FPGAVendor: Xilinx; Published: 15-Sep-2003; Publisher: Altium Limited; HelpURL: http://toolbox.xilinx.com/docsan/xilinx7/books/docs/lib/lib.pdf
pins: C (in), CED (in), CEOD (out), CEOU (out), CEU (in), D0 (in), D1 (in), D2 (in), D3 (in), L (in), Q0 (out), Q1 (out), Q2 (out), Q3 (out), R (in), TCD (out), TCU (out)

## CBD8CE
designator U?
8-Bit Cascadable Dual Edge Triggered Binary Counters with Clock Enable and Asynchronous Clear; FPGAVendor: Xilinx; Published: 15-Sep-2003; Publisher: Altium Limited; HelpURL: http://toolbox.xilinx.com/docsan/xilinx7/books/docs/lib/lib.pdf
pins: C (in), CE (in), CEO (out), CLR (in), Q[7..0] (out), TC (out)

## CBD8CLE
designator U?
8-Bit Loadable Cascadable Dual Edge Triggered Binary Counters with Clock Enable and Asynchronous Clear; FPGAVendor: Xilinx; Published: 15-Sep-2003; Publisher: Altium Limited; HelpURL: http://toolbox.xilinx.com/docsan/xilinx7/books/docs/lib/lib.pdf
pins: C (in), CE (in), CEO (out), CLR (in), D[7..0] (in), L (in), Q[7..0] (out), TC (out)

## CBD8CLED
designator U?
8-Bit Loadable Cascadable Bidirectional Dual Edge Triggered Binary Counters with Clock Enable and Asynchronous Clear; FPGAVendor: Xilinx; Published: 15-Sep-2003; Publisher: Altium Limited; HelpURL: http://toolbox.xilinx.com/docsan/xilinx7/books/docs/lib/lib.pdf
pins: C (in), CE (in), CEO (out), CLR (in), D[7..0] (in), L (in), Q[7..0] (out), TC (out), UP (in)

## CBD8RE
designator U?
8-Bit Cascadable Dual Edge Triggered Binary Counters with Clock Enable and Synchronous Reset; FPGAVendor: Xilinx; Published: 15-Sep-2003; Publisher: Altium Limited; HelpURL: http://toolbox.xilinx.com/docsan/xilinx7/books/docs/lib/lib.pdf
pins: C (in), CE (in), CEO (out), Q[7..0] (out), R (in), TC (out)

## CBD8RLE
designator U?
8-Bit Loadable Cascadable Dual Edge Triggered Binary Counters with Clock Enable and Synchronous Reset; FPGAVendor: Xilinx; Published: 15-Sep-2003; Publisher: Altium Limited; HelpURL: http://toolbox.xilinx.com/docsan/xilinx7/books/docs/lib/lib.pdf
pins: C (in), CE (in), CEO (out), D[7..0] (in), L (in), Q[7..0] (out), R (in), TC (out)

## CBD8X1
designator U?
8-Bit Loadable Cascadable Bidirectional Dual Edge Triggered Binary Counters with Clock Enable and Asynchronous Clear; FPGAVendor: Xilinx; Published: 15-Sep-2003; Publisher: Altium Limited; HelpURL: http://toolbox.xilinx.com/docsan/xilinx7/books/docs/lib/lib.pdf
pins: C (in), CED (in), CEOD (out), CEOU (out), CEU (in), CLR (in), D[7..0] (in), L (in), Q[7..0] (out), TCD (out), TCU (out)

## CBD8X2
designator U?
8-Bit Loadable Cascadable Bidirectional Dual Edge Triggered Binary Counters with Clock Enable and Synchronous Reset; FPGAVendor: Xilinx; Published: 15-Sep-2003; Publisher: Altium Limited; HelpURL: http://toolbox.xilinx.com/docsan/xilinx7/books/docs/lib/lib.pdf
pins: C (in), CED (in), CEOD (out), CEOU (out), CEU (in), D[7..0] (in), L (in), Q[7..0] (out), R (in), TCD (out), TCU (out)

## CBD16CE
designator U?
16-Bit Cascadable Dual Edge Triggered Binary Counters with Clock Enable and Asynchronous Clear; FPGAVendor: Xilinx; Published: 15-Sep-2003; Publisher: Altium Limited; HelpURL: http://toolbox.xilinx.com/docsan/xilinx7/books/docs/lib/lib.pdf
pins: C (in), CE (in), CEO (out), CLR (in), Q[15..0] (out), TC (out)

## CBD16CLE
designator U?
16-Bit Loadable Cascadable Dual Edge Triggered Binary Counters with Clock Enable and Asynchronous Clear; FPGAVendor: Xilinx; Published: 15-Sep-2003; Publisher: Altium Limited; HelpURL: http://toolbox.xilinx.com/docsan/xilinx7/books/docs/lib/lib.pdf
pins: C (in), CE (in), CEO (out), CLR (in), D[15..0] (in), L (in), Q[15..0] (out), TC (out)

## CBD16CLED
designator U?
16-Bit Loadable Cascadable Bidirectional Dual Edge Triggered Binary Counters with Clock Enable and Asynchronous Clear; FPGAVendor: Xilinx; Published: 15-Sep-2003; Publisher: Altium Limited; HelpURL: http://toolbox.xilinx.com/docsan/xilinx7/books/docs/lib/lib.pdf
pins: C (in), CE (in), CEO (out), CLR (in), D[15..0] (in), L (in), Q[15..0] (out), TC (out), UP (in)

## CBD16RE
designator U?
16-Bit Cascadable Dual Edge Triggered Binary Counters with Clock Enable and Synchronous Reset; FPGAVendor: Xilinx; Published: 15-Sep-2003; Publisher: Altium Limited; HelpURL: http://toolbox.xilinx.com/docsan/xilinx7/books/docs/lib/lib.pdf
pins: C (in), CE (in), CEO (out), Q[15..0] (out), R (in), TC (out)

## CBD16RLE
designator U?
16-Bit Loadable Cascadable Dual Edge Triggered Binary Counters with Clock Enable and Synchronous Reset; FPGAVendor: Xilinx; Published: 15-Sep-2003; Publisher: Altium Limited; HelpURL: http://toolbox.xilinx.com/docsan/xilinx7/books/docs/lib/lib.pdf
pins: C (in), CE (in), CEO (out), D[15..0] (in), L (in), Q[15..0] (out), R (in), TC (out)

## CBD16X1
designator U?
16-Bit Loadable Cascadable Bidirectional Dual Edge Triggered Binary Counters with Clock Enable and Asynchronous Clear; FPGAVendor: Xilinx; Published: 15-Sep-2003; Publisher: Altium Limited; HelpURL: http://toolbox.xilinx.com/docsan/xilinx7/books/docs/lib/lib.pdf
pins: C (in), CED (in), CEOD (out), CEOU (out), CEU (in), CLR (in), D[15..0] (in), L (in), Q[15..0] (out), TCD (out), TCU (out)

## CBD16X2
designator U?
16-Bit Loadable Cascadable Bidirectional Dual Edge Triggered Binary Counters with Clock Enable and Synchronous Reset; FPGAVendor: Xilinx; Published: 15-Sep-2003; Publisher: Altium Limited; HelpURL: http://toolbox.xilinx.com/docsan/xilinx7/books/docs/lib/lib.pdf
pins: C (in), CED (in), CEOD (out), CEOU (out), CEU (in), D[15..0] (in), L (in), Q[15..0] (out), R (in), TCD (out), TCU (out)

## CD4CE
designator U?
4-Bit Cascadable BCD Counter with Clock Enable and Asynchronous Clear; FPGAVendor: Xilinx; Published: 15-Sep-2003; Publisher: Altium Limited; HelpURL: http://toolbox.xilinx.com/docsan/xilinx7/books/docs/lib/lib.pdf
pins: C (in), CE (in), CEO (out), CLR (in), Q0 (out), Q1 (out), Q2 (out), Q3 (out), TC (out)

## CD4CLE
designator U?
4-Bit Loadable Cascadable BCD Counter with Clock Enable and Asynchronous Clear; FPGAVendor: Xilinx; Published: 15-Sep-2003; Publisher: Altium Limited; HelpURL: http://toolbox.xilinx.com/docsan/xilinx7/books/docs/lib/lib.pdf
pins: C (in), CE (in), CEO (out), CLR (in), D0 (in), D1 (in), D2 (in), D3 (in), L (in), Q0 (out), Q1 (out), Q2 (out), Q3 (out), TC (out)

## CD4RE
designator U?
4-Bit Cascadable BCD Counter with Clock Enable and Synchronous Reset; FPGAVendor: Xilinx; Published: 15-Sep-2003; Publisher: Altium Limited; HelpURL: http://toolbox.xilinx.com/docsan/xilinx7/books/docs/lib/lib.pdf
pins: C (in), CE (in), CEO (out), Q0 (out), Q1 (out), Q2 (out), Q3 (out), R (in), TC (out)

## CD4RLE
designator U?
4-Bit Loadable Cascadable BCD Counter with Clock Enable and Synchronous Reset; FPGAVendor: Xilinx; Published: 15-Sep-2003; Publisher: Altium Limited; HelpURL: http://toolbox.xilinx.com/docsan/xilinx7/books/docs/lib/lib.pdf
pins: C (in), CE (in), CEO (out), D0 (in), D1 (in), D2 (in), D3 (in), L (in), Q0 (out), Q1 (out), Q2 (out), Q3 (out), R (in), TC (out)

## CDD4CE
designator U?
4-Bit Cascadable Dual Edge Triggered BCD Counter with Clock Enable and Asynchronous Clear; FPGAVendor: Xilinx; Published: 15-Sep-2003; Publisher: Altium Limited; HelpURL: http://toolbox.xilinx.com/docsan/xilinx7/books/docs/lib/lib.pdf
pins: C (in), CE (in), CEO (out), CLR (in), Q0 (out), Q1 (out), Q2 (out), Q3 (out), TC (out)

## CDD4CLE
designator U?
4-Bit Loadable Cascadable Dual Edge Triggered BCD Counter with Clock Enable and Asynchronous Clear; FPGAVendor: Xilinx; Published: 15-Sep-2003; Publisher: Altium Limited; HelpURL: http://toolbox.xilinx.com/docsan/xilinx7/books/docs/lib/lib.pdf
pins: C (in), CE (in), CEO (out), CLR (in), D0 (in), D1 (in), D2 (in), D3 (in), L (in), Q0 (out), Q1 (out), Q2 (out), Q3 (out), TC (out)

## CDD4RE
designator U?
4-Bit Cascadable Dual Edge Triggered BCD Counter with Clock Enable and Synchronous Reset; FPGAVendor: Xilinx; Published: 15-Sep-2003; Publisher: Altium Limited; HelpURL: http://toolbox.xilinx.com/docsan/xilinx7/books/docs/lib/lib.pdf
pins: C (in), CE (in), CEO (out), Q0 (out), Q1 (out), Q2 (out), Q3 (out), R (in), TC (out)

## CDD4RLE
designator U?
4-Bit Loadable Cascadable Dual Edge Triggered BCD Counter with Clock Enable and Synchronous Reset; FPGAVendor: Xilinx; Published: 15-Sep-2003; Publisher: Altium Limited; HelpURL: http://toolbox.xilinx.com/docsan/xilinx7/books/docs/lib/lib.pdf
pins: C (in), CE (in), CEO (out), D0 (in), D1 (in), D2 (in), D3 (in), L (in), Q0 (out), Q1 (out), Q2 (out), Q3 (out), R (in), TC (out)

## CJ4CE
designator U?
4-Bit Johnson Counter with Clock Enable and Asynchronous Clear; FPGAVendor: Xilinx; Published: 15-Sep-2003; Publisher: Altium Limited; HelpURL: http://toolbox.xilinx.com/docsan/xilinx7/books/docs/lib/lib.pdf
pins: C (in), CE (in), CLR (in), Q0 (out), Q1 (out), Q2 (out), Q3 (out)

## CJ4RE
designator U?
4-Bit Johnson Counter with Clock Enable and Synchronous Reset; FPGAVendor: Xilinx; Published: 15-Sep-2003; Publisher: Altium Limited; HelpURL: http://toolbox.xilinx.com/docsan/xilinx7/books/docs/lib/lib.pdf
pins: C (in), CE (in), Q0 (out), Q1 (out), Q2 (out), Q3 (out), R (in)

## CJ5CE
designator U?
5-Bit Johnson Counter with Clock Enable and Asynchronous Clear; FPGAVendor: Xilinx; Published: 15-Sep-2003; Publisher: Altium Limited; HelpURL: http://toolbox.xilinx.com/docsan/xilinx7/books/docs/lib/lib.pdf
pins: C (in), CE (in), CLR (in), Q0 (out), Q1 (out), Q2 (out), Q3 (out), Q4 (out)

## CJ5RE
designator U?
5-Bit Johnson Counters with Clock Enable and Synchronous Reset; FPGAVendor: Xilinx; Published: 15-Sep-2003; Publisher: Altium Limited; HelpURL: http://toolbox.xilinx.com/docsan/xilinx7/books/docs/lib/lib.pdf
pins: C (in), CE (in), Q0 (out), Q1 (out), Q2 (out), Q3 (out), Q4 (out), R (in)

## CJ8CE
designator U?
8-Bit Johnson Counter with Clock Enable and Asynchronous Clear; FPGAVendor: Xilinx; Published: 15-Sep-2003; Publisher: Altium Limited; HelpURL: http://toolbox.xilinx.com/docsan/xilinx7/books/docs/lib/lib.pdf
pins: C (in), CE (in), CLR (in), Q[7..0] (out)

## CJ8RE
designator U?
8-Bit Johnson Counter with Clock Enable and Synchronous Reset; FPGAVendor: Xilinx; Published: 15-Sep-2003; Publisher: Altium Limited; HelpURL: http://toolbox.xilinx.com/docsan/xilinx7/books/docs/lib/lib.pdf
pins: C (in), CE (in), Q[7..0] (out), R (in)

## CJD4CE
designator U?
4-Bit Dual Edge Triggered Johnson Counters with Clock Enable and Asynchronous Clear; FPGAVendor: Xilinx; Published: 15-Sep-2003; Publisher: Altium Limited; HelpURL: http://toolbox.xilinx.com/docsan/xilinx7/books/docs/lib/lib.pdf
pins: C (in), CE (in), CLR (in), Q0 (out), Q1 (out), Q2 (out), Q3 (out)

## CJD4RE
designator U?
4-Bit Dual Edge Triggered Johnson Counters with Clock Enable and Synchronous Reset; FPGAVendor: Xilinx; Published: 15-Sep-2003; Publisher: Altium Limited; HelpURL: http://toolbox.xilinx.com/docsan/xilinx7/books/docs/lib/lib.pdf
pins: C (in), CE (in), Q0 (out), Q1 (out), Q2 (out), Q3 (out), R (in)

## CJD5CE
designator U?
5-Bit Dual Edge Triggered Johnson Counters with Clock Enable and Asynchronous Clear; FPGAVendor: Xilinx; Published: 15-Sep-2003; Publisher: Altium Limited; HelpURL: http://toolbox.xilinx.com/docsan/xilinx7/books/docs/lib/lib.pdf
pins: C (in), CE (in), CLR (in), Q0 (out), Q1 (out), Q2 (out), Q3 (out), Q4 (out)

## CJD5RE
designator U?
5-Bit Dual Edge Triggered Johnson Counters with Clock Enable and Synchronous Reset; FPGAVendor: Xilinx; Published: 15-Sep-2003; Publisher: Altium Limited; HelpURL: http://toolbox.xilinx.com/docsan/xilinx7/books/docs/lib/lib.pdf
pins: C (in), CE (in), Q0 (out), Q1 (out), Q2 (out), Q3 (out), Q4 (out), R (in)

## CJD8CE
designator U?
8-Bit Dual Edge Triggered Johnson Counters with Clock Enable and Asynchronous Clear; FPGAVendor: Xilinx; Published: 15-Sep-2003; Publisher: Altium Limited; HelpURL: http://toolbox.xilinx.com/docsan/xilinx7/books/docs/lib/lib.pdf
pins: C (in), CE (in), CLR (in), Q[7..0] (out)

## CJD8RE
designator U?
8-Bit Dual Edge Triggered Johnson Counters with Clock Enable and Synchronous Reset; FPGAVendor: Xilinx; Published: 15-Sep-2003; Publisher: Altium Limited; HelpURL: http://toolbox.xilinx.com/docsan/xilinx7/books/docs/lib/lib.pdf
pins: C (in), CE (in), Q[7..0] (out), R (in)

## CLK_DIV2
designator U?
Global Clock Divider; FPGAVendor: Xilinx; Published: 15-Sep-2003; Publisher: Altium Limited; HelpURL: http://toolbox.xilinx.com/docsan/xilinx7/books/docs/lib/lib.pdf
pins: CLKDV (out), CLKIN (in)

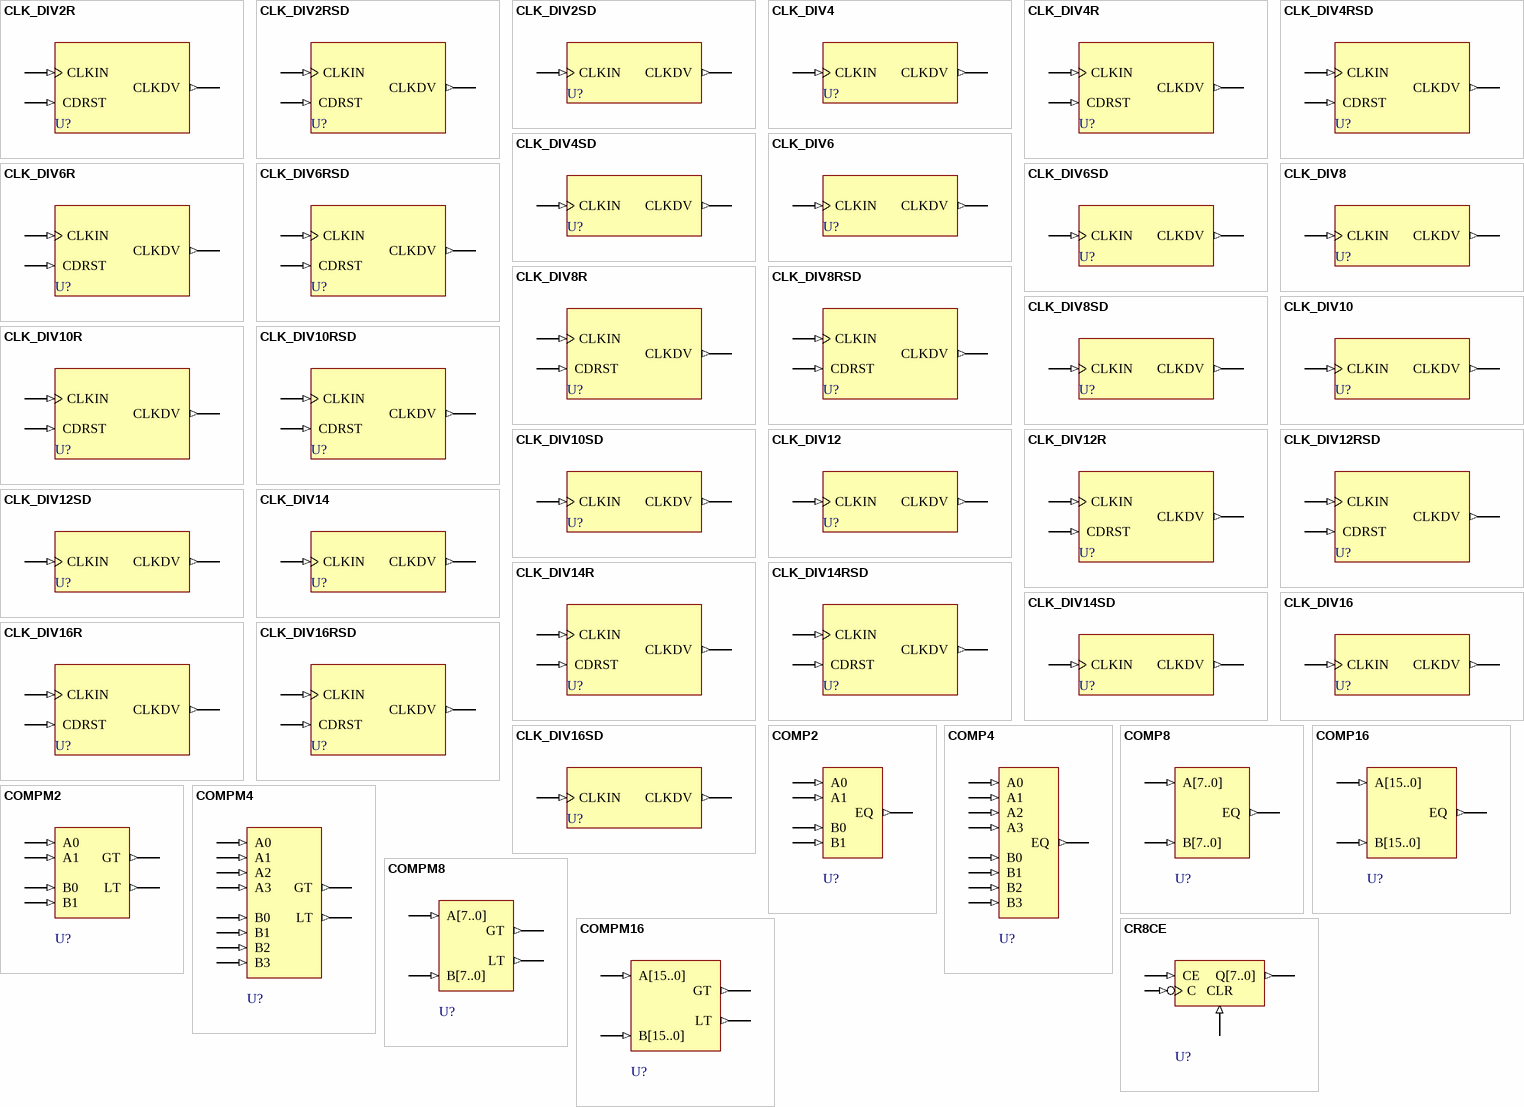
[diagram p3: symbols CLK_DIV2R to CR8CE]

## CLK_DIV2R
designator U?
Global Clock Divider with Synchronous Reset; FPGAVendor: Xilinx; Published: 15-Sep-2003; Publisher: Altium Limited; HelpURL: http://toolbox.xilinx.com/docsan/xilinx7/books/docs/lib/lib.pdf
pins: CDRST (in), CLKDV (out), CLKIN (in)

## CLK_DIV2RSD
designator U?
Global Clock Divider with Synchronous Reset and Start Delay; FPGAVendor: Xilinx; Published: 15-Sep-2003; Publisher: Altium Limited; HelpURL: http://toolbox.xilinx.com/docsan/xilinx7/books/docs/lib/lib.pdf
pins: CDRST (in), CLKDV (out), CLKIN (in)

## CLK_DIV2SD
designator U?
Global Clock Divider with Start Delay; FPGAVendor: Xilinx; Published: 15-Sep-2003; Publisher: Altium Limited; HelpURL: http://toolbox.xilinx.com/docsan/xilinx7/books/docs/lib/lib.pdf
pins: CLKDV (out), CLKIN (in)

## CLK_DIV4
designator U?
Global Clock Divider; FPGAVendor: Xilinx; Published: 15-Sep-2003; Publisher: Altium Limited; HelpURL: http://toolbox.xilinx.com/docsan/xilinx7/books/docs/lib/lib.pdf
pins: CLKDV (out), CLKIN (in)

## CLK_DIV4R
designator U?
Global Clock Divider with Synchronous Reset; FPGAVendor: Xilinx; Published: 15-Sep-2003; Publisher: Altium Limited; HelpURL: http://toolbox.xilinx.com/docsan/xilinx7/books/docs/lib/lib.pdf
pins: CDRST (in), CLKDV (out), CLKIN (in)

## CLK_DIV4RSD
designator U?
Global Clock Divider with Synchronous Reset and Start Delay; FPGAVendor: Xilinx; Published: 15-Sep-2003; Publisher: Altium Limited; HelpURL: http://toolbox.xilinx.com/docsan/xilinx7/books/docs/lib/lib.pdf
pins: CDRST (in), CLKDV (out), CLKIN (in)

## CLK_DIV4SD
designator U?
Global Clock Divider with Start Delay; FPGAVendor: Xilinx; Published: 15-Sep-2003; Publisher: Altium Limited; HelpURL: http://toolbox.xilinx.com/docsan/xilinx7/books/docs/lib/lib.pdf
pins: CLKDV (out), CLKIN (in)

## CLK_DIV6
designator U?
Global Clock Divider; FPGAVendor: Xilinx; Published: 15-Sep-2003; Publisher: Altium Limited; HelpURL: http://toolbox.xilinx.com/docsan/xilinx7/books/docs/lib/lib.pdf
pins: CLKDV (out), CLKIN (in)

## CLK_DIV6R
designator U?
Global Clock Divider with Synchronous Reset; FPGAVendor: Xilinx; Published: 15-Sep-2003; Publisher: Altium Limited; HelpURL: http://toolbox.xilinx.com/docsan/xilinx7/books/docs/lib/lib.pdf
pins: CDRST (in), CLKDV (out), CLKIN (in)

## CLK_DIV6RSD
designator U?
Global Clock Divider with Synchronous Reset and Start Delay; FPGAVendor: Xilinx; Published: 15-Sep-2003; Publisher: Altium Limited; HelpURL: http://toolbox.xilinx.com/docsan/xilinx7/books/docs/lib/lib.pdf
pins: CDRST (in), CLKDV (out), CLKIN (in)

## CLK_DIV6SD
designator U?
Global Clock Divider with Start Delay; FPGAVendor: Xilinx; Published: 15-Sep-2003; Publisher: Altium Limited; HelpURL: http://toolbox.xilinx.com/docsan/xilinx7/books/docs/lib/lib.pdf
pins: CLKDV (out), CLKIN (in)

## CLK_DIV8
designator U?
Global Clock Divider; FPGAVendor: Xilinx; Published: 15-Sep-2003; Publisher: Altium Limited; HelpURL: http://toolbox.xilinx.com/docsan/xilinx7/books/docs/lib/lib.pdf
pins: CLKDV (out), CLKIN (in)

## CLK_DIV8R
designator U?
Global Clock Divider with Synchronous Reset; FPGAVendor: Xilinx; Published: 15-Sep-2003; Publisher: Altium Limited; HelpURL: http://toolbox.xilinx.com/docsan/xilinx7/books/docs/lib/lib.pdf
pins: CDRST (in), CLKDV (out), CLKIN (in)

## CLK_DIV8RSD
designator U?
Global Clock Divider with Synchronous Reset and Start Delay; FPGAVendor: Xilinx; Published: 15-Sep-2003; Publisher: Altium Limited; HelpURL: http://toolbox.xilinx.com/docsan/xilinx7/books/docs/lib/lib.pdf
pins: CDRST (in), CLKDV (out), CLKIN (in)

## CLK_DIV8SD
designator U?
Global Clock Divider with Start Delay; FPGAVendor: Xilinx; Published: 15-Sep-2003; Publisher: Altium Limited; HelpURL: http://toolbox.xilinx.com/docsan/xilinx7/books/docs/lib/lib.pdf
pins: CLKDV (out), CLKIN (in)

## CLK_DIV10
designator U?
Global Clock Divider; FPGAVendor: Xilinx; Published: 15-Sep-2003; Publisher: Altium Limited; HelpURL: http://toolbox.xilinx.com/docsan/xilinx7/books/docs/lib/lib.pdf
pins: CLKDV (out), CLKIN (in)

## CLK_DIV10R
designator U?
Global Clock Divider with Synchronous Reset; FPGAVendor: Xilinx; Published: 15-Sep-2003; Publisher: Altium Limited; HelpURL: http://toolbox.xilinx.com/docsan/xilinx7/books/docs/lib/lib.pdf
pins: CDRST (in), CLKDV (out), CLKIN (in)

## CLK_DIV10RSD
designator U?
Global Clock Divider with Synchronous Reset and Start Delay; FPGAVendor: Xilinx; Published: 15-Sep-2003; Publisher: Altium Limited; HelpURL: http://toolbox.xilinx.com/docsan/xilinx7/books/docs/lib/lib.pdf
pins: CDRST (in), CLKDV (out), CLKIN (in)

## CLK_DIV10SD
designator U?
Global Clock Divider with Start Delay; FPGAVendor: Xilinx; Published: 15-Sep-2003; Publisher: Altium Limited; HelpURL: http://toolbox.xilinx.com/docsan/xilinx7/books/docs/lib/lib.pdf
pins: CLKDV (out), CLKIN (in)

## CLK_DIV12
designator U?
Global Clock Divider; FPGAVendor: Xilinx; Published: 15-Sep-2003; Publisher: Altium Limited; HelpURL: http://toolbox.xilinx.com/docsan/xilinx7/books/docs/lib/lib.pdf
pins: CLKDV (out), CLKIN (in)

## CLK_DIV12R
designator U?
Global Clock Divider with Synchronous Reset; FPGAVendor: Xilinx; Published: 15-Sep-2003; Publisher: Altium Limited; HelpURL: http://toolbox.xilinx.com/docsan/xilinx7/books/docs/lib/lib.pdf
pins: CDRST (in), CLKDV (out), CLKIN (in)

## CLK_DIV12RSD
designator U?
Global Clock Divider with Synchronous Reset and Start Delay; FPGAVendor: Xilinx; Published: 15-Sep-2003; Publisher: Altium Limited; HelpURL: http://toolbox.xilinx.com/docsan/xilinx7/books/docs/lib/lib.pdf
pins: CDRST (in), CLKDV (out), CLKIN (in)

## CLK_DIV12SD
designator U?
Global Clock Divider with Start Delay; FPGAVendor: Xilinx; Published: 15-Sep-2003; Publisher: Altium Limited; HelpURL: http://toolbox.xilinx.com/docsan/xilinx7/books/docs/lib/lib.pdf
pins: CLKDV (out), CLKIN (in)

## CLK_DIV14
designator U?
Global Clock Divider; FPGAVendor: Xilinx; Published: 15-Sep-2003; Publisher: Altium Limited; HelpURL: http://toolbox.xilinx.com/docsan/xilinx7/books/docs/lib/lib.pdf
pins: CLKDV (out), CLKIN (in)

## CLK_DIV14R
designator U?
Global Clock Divider with Synchronous Reset; FPGAVendor: Xilinx; Published: 15-Sep-2003; Publisher: Altium Limited; HelpURL: http://toolbox.xilinx.com/docsan/xilinx7/books/docs/lib/lib.pdf
pins: CDRST (in), CLKDV (out), CLKIN (in)

## CLK_DIV14RSD
designator U?
Global Clock Divider with Synchronous Reset and Start Delay; FPGAVendor: Xilinx; Published: 15-Sep-2003; Publisher: Altium Limited; HelpURL: http://toolbox.xilinx.com/docsan/xilinx7/books/docs/lib/lib.pdf
pins: CDRST (in), CLKDV (out), CLKIN (in)

## CLK_DIV14SD
designator U?
Global Clock Divider with Start Delay; FPGAVendor: Xilinx; Published: 15-Sep-2003; Publisher: Altium Limited; HelpURL: http://toolbox.xilinx.com/docsan/xilinx7/books/docs/lib/lib.pdf
pins: CLKDV (out), CLKIN (in)

## CLK_DIV16
designator U?
Global Clock Divider; FPGAVendor: Xilinx; Published: 15-Sep-2003; Publisher: Altium Limited; HelpURL: http://toolbox.xilinx.com/docsan/xilinx7/books/docs/lib/lib.pdf
pins: CLKDV (out), CLKIN (in)

## CLK_DIV16R
designator U?
Global Clock Divider with Synchronous Reset; FPGAVendor: Xilinx; Published: 15-Sep-2003; Publisher: Altium Limited; HelpURL: http://toolbox.xilinx.com/docsan/xilinx7/books/docs/lib/lib.pdf
pins: CDRST (in), CLKDV (out), CLKIN (in)

## CLK_DIV16RSD
designator U?
Global Clock Divider with Synchronous Reset and Start Delay; FPGAVendor: Xilinx; Published: 15-Sep-2003; Publisher: Altium Limited; HelpURL: http://toolbox.xilinx.com/docsan/xilinx7/books/docs/lib/lib.pdf
pins: CDRST (in), CLKDV (out), CLKIN (in)

## CLK_DIV16SD
designator U?
Global Clock Divider with Start Delay; FPGAVendor: Xilinx; Published: 15-Sep-2003; Publisher: Altium Limited; HelpURL: http://toolbox.xilinx.com/docsan/xilinx7/books/docs/lib/lib.pdf
pins: CLKDV (out), CLKIN (in)

## COMP2
designator U?
2-Bit Identity Comparator; FPGAVendor: Xilinx; Published: 15-Sep-2003; Publisher: Altium Limited; HelpURL: http://toolbox.xilinx.com/docsan/xilinx7/books/docs/lib/lib.pdf
pins: A0 (in), A1 (in), B0 (in), B1 (in), EQ (out)

## COMP4
designator U?
4-Bit Identity Comparator; FPGAVendor: Xilinx; Published: 15-Sep-2003; Publisher: Altium Limited; HelpURL: http://toolbox.xilinx.com/docsan/xilinx7/books/docs/lib/lib.pdf
pins: A0 (in), A1 (in), A2 (in), A3 (in), B0 (in), B1 (in), B2 (in), B3 (in), EQ (out)

## COMP8
designator U?
8-Bit Identity Comparator; FPGAVendor: Xilinx; Published: 15-Sep-2003; Publisher: Altium Limited; HelpURL: http://toolbox.xilinx.com/docsan/xilinx7/books/docs/lib/lib.pdf
pins: A[7..0] (in), B[7..0] (in), EQ (out)

## COMP16
designator U?
16-Bit Identity Comparator; FPGAVendor: Xilinx; Published: 15-Sep-2003; Publisher: Altium Limited; HelpURL: http://toolbox.xilinx.com/docsan/xilinx7/books/docs/lib/lib.pdf
pins: A[15..0] (in), B[15..0] (in), EQ (out)

## COMPM2
designator U?
2-Bit Magnitude Comparator; FPGAVendor: Xilinx; Published: 15-Sep-2003; Publisher: Altium Limited; HelpURL: http://toolbox.xilinx.com/docsan/xilinx7/books/docs/lib/lib.pdf
pins: A0 (in), A1 (in), B0 (in), B1 (in), GT (out), LT (out)

## COMPM4
designator U?
4-Bit Magnitude Comparator; FPGAVendor: Xilinx; Published: 15-Sep-2003; Publisher: Altium Limited; HelpURL: http://toolbox.xilinx.com/docsan/xilinx7/books/docs/lib/lib.pdf
pins: A0 (in), A1 (in), A2 (in), A3 (in), B0 (in), B1 (in), B2 (in), B3 (in), GT (out), LT (out)

## COMPM8
designator U?
8-Bit Magnitude Comparator; FPGAVendor: Xilinx; Published: 15-Sep-2003; Publisher: Altium Limited; HelpURL: http://toolbox.xilinx.com/docsan/xilinx7/books/docs/lib/lib.pdf
pins: A[7..0] (in), B[7..0] (in), GT (out), LT (out)

## COMPM16
designator U?
16-Bit Magnitude Comparator; FPGAVendor: Xilinx; Published: 15-Sep-2003; Publisher: Altium Limited; HelpURL: http://toolbox.xilinx.com/docsan/xilinx7/books/docs/lib/lib.pdf
pins: A[15..0] (in), B[15..0] (in), GT (out), LT (out)